# Altium footprint library LIB9封装2.PcbLib: 3 footprints
Each footprint in its own frame and in the unit in brackets; x right, y up, seen from the top. Pads: shape width x height; smd on the part's side, far side on the other; paste and mask are expansions set on the pad; w line width, h text height; cw(c..) or ccw(c..) is an arc to the next point about the centre after c.
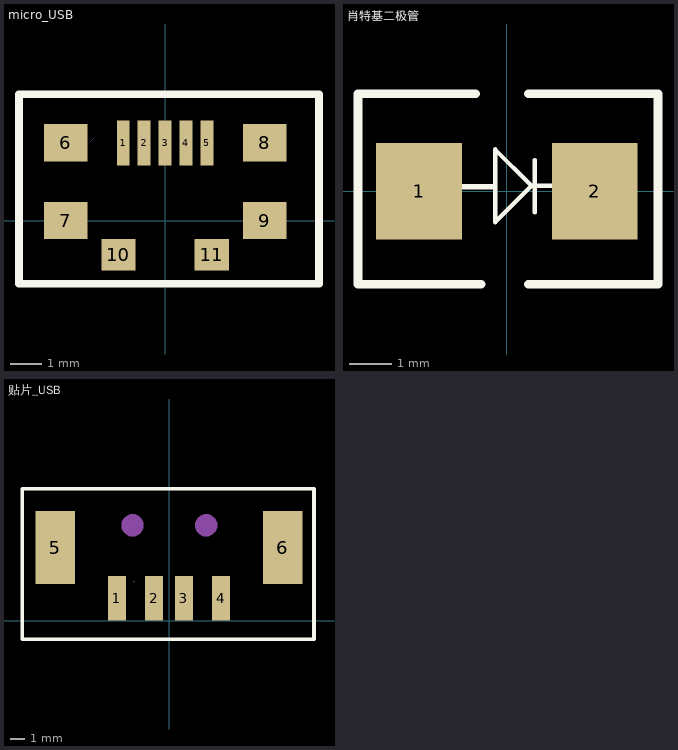
[diagram p0: the footprints below, top view; thin cyan lines are the x and y axes]

## micro_USB [mm]
pads (11):
  rect 0.415x1.451 smd: 1(-1.346,2.5) 2(-0.673,2.5) 3(0,2.5) 4(0.673,2.5) 5(1.346,2.5)
  rect 1.4x1.2 smd: 6(-3.2,2.5) 7(-3.2,0) 8(3.2,2.5) 9(3.2,0)
  rect 1.1x1 smd: 10(-1.5,-1.1) 11(1.5,-1.1)
Top Overlay:
  lines w0.254: 4.889,4.064 -4.699,4.064 -4.699,-2.032 4.953,-2.032 4.953,4.064
Mechanical 1:
  region: 1.905,-0.127
  pour cut-out: -2.413,2.54 -2.286,2.667
3D body: height 0.25, standoff 0, extent 1.651,0.762 1.651,0.762

## 肖特基二极管 [mil]
pads (2):
  rect 80x90 smd: 1(-82,0) 2(82,0)
Top Overlay:
  lines w4: 22,6 -11,39 -11,-29 23,5 46,5 ; 26,-20 26,29
  lines w5: -43,4 -13,4
  lines w8: -29,91 -139,91 -139,-87 -24,-87 ; 20,-87 141,-87 141,91 20,91

## 贴片_USB [mm]
pads (6):
  rect 1.2x3 smd: 1(-3.5,1.5) 2(-1,1.5) 3(1,1.5) 4(3.5,1.5)
  rect 2.65x4.9 smd: 5(-7.625,4.9) 6(7.625,4.9)
Top Overlay:
  lines w0.254: -9.86,-1.26 9.73,-1.26 9.73,8.86 -9.86,8.86 -9.86,-1.26
Mechanical 1:
  circle w1: c2.5,6.4 r0.25
  circle w1: c-2.45,6.4 r0.25
  pour cut-out: -2.413,2.54 -2.286,2.667
  region: 1.905,-0.127
3D body: height 0.25, standoff 0, extent 1.651,0.762 1.651,0.762